# Altium schematic symbol library Schlib1.SchLib: 2 symbols
Pins are listed as number, name and electrical type; pins without a type are passive.

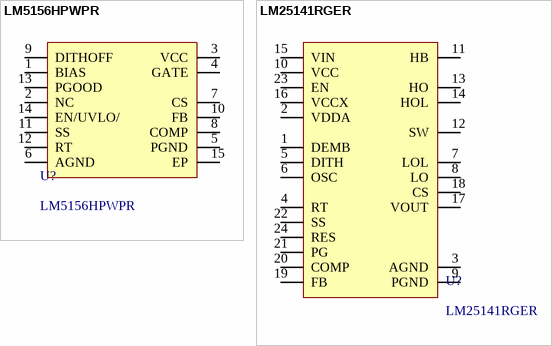
[diagram p0: symbols LM5156HPWPR to LM25141RGER]

## LM5156HPWPR
designator U?
pins: 1 BIAS, 2 NC, 3 VCC, 4 GATE, 5 PGND, 6 AGND, 7 CS, 8 COMP, 9 DITHOFF, 10 FB, 11 SS, 12 RT, 13 PGOOD, 14 EN/UVLO/, 15 EP

## LM25141RGER
designator U?
pins: 1 DEMB, 2 VDDA, 3 AGND, 4 RT, 5 DITH, 6 OSC, 7 LOL, 8 LO, 9 PGND, 10 VCC, 11 HB, 12 SW, 13 HO, 14 HOL, 15 VIN, 16 VCCX, 17 VOUT, 18 CS, 19 FB, 20 COMP, 21 PG, 22 SS, 23 EN, 24 RES